# Altium footprint library PCB - DIODES - LED RGB 6-PLCC 3535 2.8MM.PcbLib: 1 footprints
Each footprint in its own frame and in the unit in brackets; x right, y up, seen from the top. Pads: shape width x height; smd on the part's side, far side on the other; paste and mask are expansions set on the pad; w line width, h text height; cw(c..) or ccw(c..) is an arc to the next point about the centre after c.
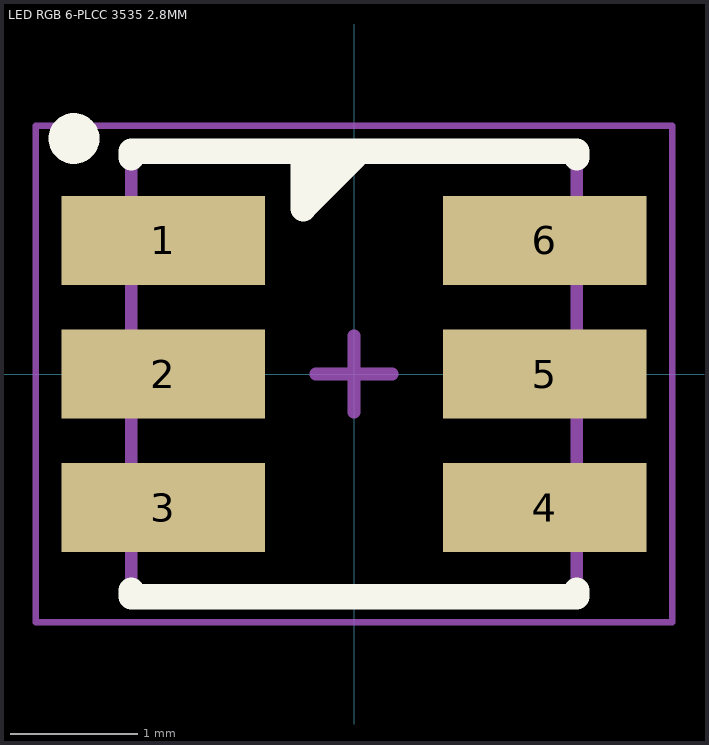
[diagram p0: the footprint, top view; thin cyan lines are the x and y axes]

## LED RGB 6-PLCC 3535 2.8MM [mm] "SMD RGB LED Indication, 6 Pads, Body 3.50x3.50mm, Package 6-PLCC, J-Lead"
height 2.8
pads (6):
  rect 1.6x0.7 smd: 1(-1.5,1.05) 2(-1.5,0) 3(-1.5,-1.05) 4(1.5,-1.05) 5(1.5,0) 6(1.5,1.05)
Top Overlay:
  circle w0.2: c-2.2,1.85 r0.1
  region: -0.4,1.8 -0.4,1.4 -0.3,1.4 0,1.7
  lines w0.2: -1.75,-1.7 -1.75,-1.75 1.75,-1.75 1.75,-1.7 ; -1.75,1.7 -1.75,1.75 1.75,1.75 1.75,1.7 ; -0.4,1.7 -0.4,1.3 0,1.7
Mechanical 13:
  circle w0.1: c-1.3,1.05 r0.3
  lines w0.1: -1.75,1.75 -1.75,-1.75 1.75,-1.75 1.75,1.75 ; -1.75,1.75 1.75,1.75 ; -1.75,1.75 1.75,1.75
Mechanical 15 (Mech15):
  lines w0.05: -2.5,-1.95 -2.5,1.95 2.5,1.95 2.5,-1.95 -2.5,-1.95
  lines w0.1: -0.3,0 0,0 ; 0,-0.3 0,0 ; 0,0.3 0,0 ; 0.3,0 0,0
3D body "LED RGB 6-PLCC 3535 2.8MM LENS.step": height 2.94, standoff 2.19, extent -1.5,-1.5 1.5,1.5
3D body "LED RGB 6-PLCC 3535 2.8MM BODY.step": height 3, standoff 0, extent -1.75,-1.75 1.75,1.75